# EAGLE library part MCP9808-E/MS (library Sensor)
SENSOR DIGITAL -40C-125C 8MSOP
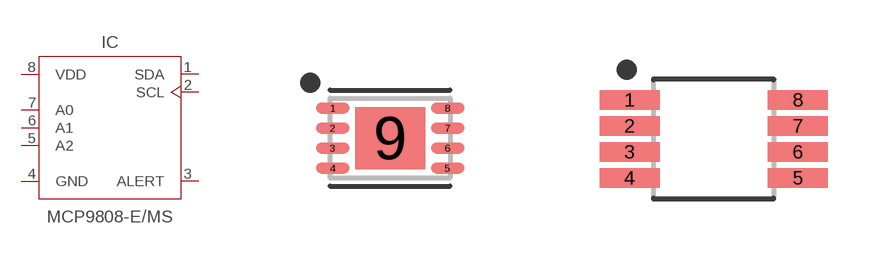
[diagram p10: symbol with the pads of SON50P300X200X100-9T175X155N; footprints SON50P300X200X100-9T175X155N, SOP65P490X110-8N]

Designator prefix IC

## MCP9808-E/MSDFN (CATEGORY: Sensor; MANUFACTURER: Microchip; MPN: MCP9808; OPERATING_TEMP: -40 to 125 °C; PART_STATUS: Active; ROHS_COMPLIANT: RoHS3 Compliant; SUB-CATEGORY: Temperature; VALUE: MCP9808)  [SON50P300X200X100-9T175X155N]
1  SDA  in
2  SCL
3  ALERT  out
4  GND  pwr
5  A2  in
6  A1  in
7  A0  in
8  VDD  pwr

## MCP9808-E/MSMSOP (CATEGORY: Sensor; MANUFACTURER: Microchip; MPN: MCP9808-E/MS; PART_STATUS: Active; ROHS: Compliant; SUB-CATEGORY: Temperature; VALUE: MCP9808)  [SOP65P490X110-8N]
Pads as for SON50P300X200X100-9T175X155N

## Footprint SON50P300X200X100-9T175X155N (pad centres in mm)
8-SON (DFN), 0.50 mm pitch, 2.00 X 3.00 X 1.00 mm body, 1.55 X 1.75 mm thermal pad 8-pin SON (DFN) package with 0.50 mm pitch with body size 2.00 X 3.00 X 1.00 mm and thermal pad size 1.55 X 1.75 mm
smd 0.837 x 0.27: 1 -1.437,0.75; 2 -1.437,0.25; 3 -1.437,-0.25; 4 -1.437,-0.75; 5 1.437,-0.75; 6 1.437,-0.25; 7 1.437,0.25; 8 1.437,0.75
smd 1.75 x 1.55: 9 0,0

## Footprint SOP65P490X110-8N (pad centres in mm)
8-SOP, 0.65 mm pitch, 4.90 mm span, 3.00 X 3.00 X 1.10 mm body 8-pin SOP package with 0.65 mm pitch, 4.90 mm span with body size 3.00 X 3.00 X 1.10 mm
smd 1.503 x 0.492: 1 -2.104,0.975; 2 -2.104,0.325; 3 -2.104,-0.325; 4 -2.104,-0.975; 5 2.104,-0.975; 6 2.104,-0.325; 7 2.104,0.325; 8 2.104,0.975